# Altium footprint library test.PcbLib: 1 footprints
Each footprint in its own frame and in the unit in brackets; x right, y up, seen from the top. Pads: shape width x height; smd on the part's side, far side on the other; paste and mask are expansions set on the pad; w line width, h text height; cw(c..) or ccw(c..) is an arc to the next point about the centre after c.
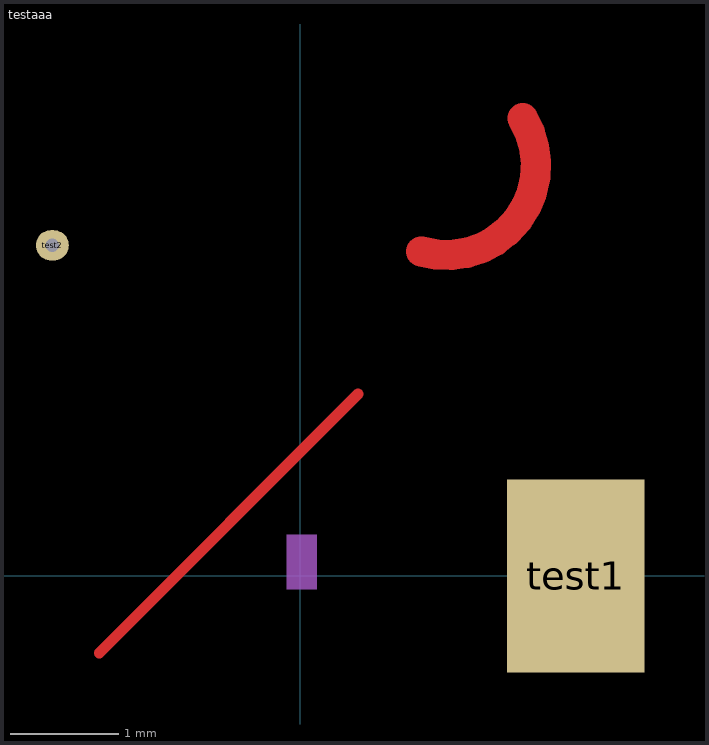
[diagram p0: the footprint, top view; thin cyan lines are the x and y axes]

## testaaa [mil]
height 55.12
pads (2):
  rect 50x70 smd: test1(100,0)
  oval 12x11 / inner oct 14x13 / far side rrect50% 16x15 hole 5: test2(-90,120)
Top Layer:
  lines w3.94: -73,-28 21,66
  lines w11: 43.88,117.73 ccw(c53,149) 80.74,166.07
Mechanical 13:
  text "AB" at -101,-79 h41
Mechanical 15:
  region: 6,-5 6,15 -5,15 -5,-5
3D body "User Library-SOIC-16-1.step": height 194.88, standoff -194.88, extent -118.1,0.01 118.12,55.13